# EAGLE library part LM2596S-5.0 (library LM2596S-5.0)
Check prices <https://pricing.snapeda.com/parts/LM2596S-5.0/NOPB/Texas%20Instruments/view-part?ref=eda>
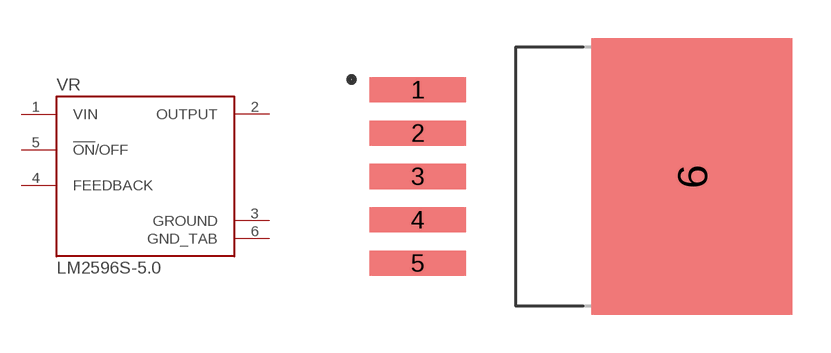
[diagram p0: symbol with the pads of TO170P1524X483-6N; footprint TO170P1524X483-6N]

Designator prefix VR

## LM2596S-5.0 (Availability: Good; Description: SIMPLE SWITCHER&reg; 4.5V to 40V, 3A Low Component Count Step-Down Regulator 5-DDPAK/TO-263; MF: Texas Instruments; MP: LM2596S-5.0/NOPB; Package: TO-263-5 Texas Instruments; Price: None; Purchase-URL: https://pricing.snapeda.com/search/part/LM2596S-5.0/NOPB/?ref=eda)  [TO170P1524X483-6N]
1  VIN  in
2  OUTPUT  out
3  GROUND  pwr
4  FEEDBACK  in
5  !ON!/OFF  in
6  GND_TAB  pwr

## Footprint TO170P1524X483-6N (pad centres in mm)
smd 3.79 x 0.99: 1 -6.4,3.4; 2 -6.4,1.7; 3 -6.4,0; 4 -6.4,-1.7; 5 -6.4,-3.4
smd 7.88 x 10.84: 6 4.35,0